# EAGLE library part STM32F405 (library Other)
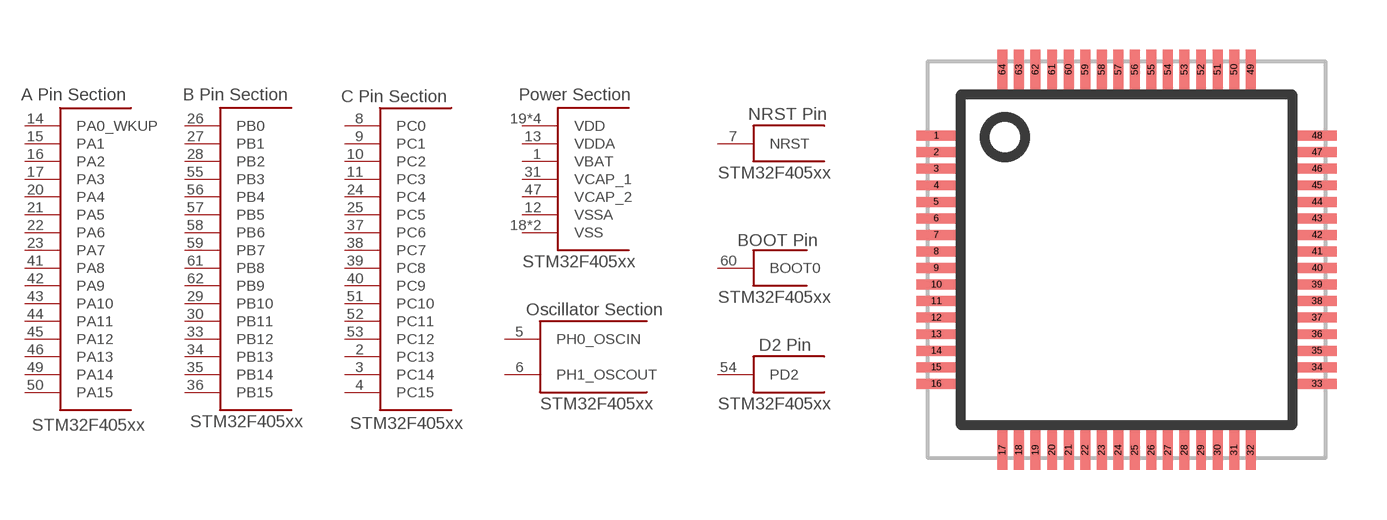
[diagram p13: symbol with the pads of LQFP64; footprint LQFP64]

Designator prefix -; gates G$1=PINSECTION-A G$2=PINSECTION-B-1 G$3=PINSECTION-C G$4=POWER-1 G$5=BOOT0 G$6=NRST G$7=OSCILLATOR G$8=PINSECTION-D

## STM32F405  [LQFP64]
1  G$4:VBAT
2  G$3:PC13
3  G$3:PC14
4  G$3:PC15
5  G$7:PH0_OSCIN
6  G$7:PH1_OSCOUT
7  G$6:NRST
8  G$3:PC0
9  G$3:PC1
10  G$3:PC2
11  G$3:PC3
12  G$4:VSSA
13  G$4:VDDA
14  G$1:PA0_WKUP
15  G$1:PA1
16  G$1:PA2
17  G$1:PA3
18  G$4:VSS
19  G$4:VDD
20  G$1:PA4
21  G$1:PA5
22  G$1:PA6
23  G$1:PA7
24  G$3:PC4
25  G$3:PC5
26  G$2:PB0
27  G$2:PB1
28  G$2:PB2
29  G$2:PB10
30  G$2:PB11
31  G$4:VCAP_1
32  G$4:VDD
33  G$2:PB12
34  G$2:PB13
35  G$2:PB14
36  G$2:PB15
37  G$3:PC6
38  G$3:PC7
39  G$3:PC8
40  G$3:PC9
41  G$1:PA8
42  G$1:PA9
43  G$1:PA10
44  G$1:PA11
45  G$1:PA12
46  G$1:PA13
47  G$4:VCAP_2
48  G$4:VDD
49  G$1:PA14
50  G$1:PA15
51  G$3:PC10
52  G$3:PC11
53  G$3:PC12
54  G$8:PD2
55  G$2:PB3
56  G$2:PB4
57  G$2:PB5
58  G$2:PB6
59  G$2:PB7
60  G$5:BOOT0
61  G$2:PB8
62  G$2:PB9
63  G$4:VSS
64  G$4:VDD

## Footprint LQFP64 (pad centres in mm)
LQFP64 print: 64 pins - pins counted counterclockwise starting from upper most pin on the left section - dot signifies pin 1
smd 1.2 x 0.3: 1 -5.75,3.75; 2 -5.75,3.25; 3 -5.75,2.75; 4 -5.75,2.25; 5 -5.75,1.75; 6 -5.75,1.25; 7 -5.75,0.75; 8 -5.75,0.25; 9 -5.75,-0.25; 10 -5.75,-0.75; 11 -5.75,-1.25; 12 -5.75,-1.75; 13 -5.75,-2.25; 14 -5.75,-2.75; 15 -5.75,-3.25; 16 -5.75,-3.75; 33 5.75,-3.75; 34 5.75,-3.25; 35 5.75,-2.75; 36 5.75,-2.25; 37 5.75,-1.75; 38 5.75,-1.25; 39 5.75,-0.75; 40 5.75,-0.25; 41 5.75,0.25; 42 5.75,0.75; 43 5.75,1.25; 44 5.75,1.75; 45 5.75,2.25; 46 5.75,2.75; 47 5.75,3.25; 48 5.75,3.75
smd 0.3 x 1.2: 17 -3.75,-5.75; 18 -3.25,-5.75; 19 -2.75,-5.75; 20 -2.25,-5.75; 21 -1.75,-5.75; 22 -1.25,-5.75; 23 -0.75,-5.75; 24 -0.25,-5.75; 25 0.25,-5.75; 26 0.75,-5.75; 27 1.25,-5.75; 28 1.75,-5.75; 29 2.25,-5.75; 30 2.75,-5.75; 31 3.25,-5.75; 32 3.75,-5.75; 49 3.75,5.75; 50 3.25,5.75; 51 2.75,5.75; 52 2.25,5.75; 53 1.75,5.75; 54 1.25,5.75; 55 0.75,5.75; 56 0.25,5.75; 57 -0.25,5.75; 58 -0.75,5.75; 59 -1.25,5.75; 60 -1.75,5.75; 61 -2.25,5.75; 62 -2.75,5.75; 63 -3.25,5.75; 64 -3.75,5.75